# Altium schematic symbol library Resistor.SchLib: 8 symbols
Pins are listed as number, name and electrical type; pins without a type are passive.

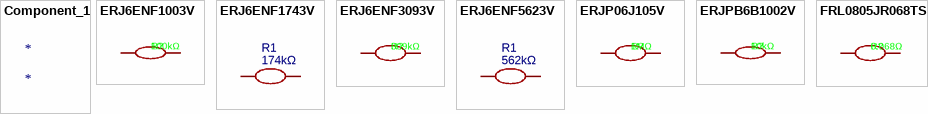
[diagram p0: symbols Component_1 to FRL0805JR068TS]

## Component_1
designator *

## ERJ6ENF1003V
designator R?, comment 100kΩ
100kΩ 0805 Chip Resistor 0.125W Thick Film Resistors ±100ppm/℃ ±1%  - Surface Mount ROHS; Manufacturer: PANASONIC(松下); Symbol: ERJ6ENF1003V; Add into BOM: yes; Device: ERJ6ENF1003V; LCSC Part Name: 100kΩ ±1% 125mW 厚膜电阻; Supplier Part: C169252; Manufacturer Part: ERJ6ENF1003V; Supplier Footprint: 0805; JLCPCB Part Class: Extended Part; Datasheet: https://atta.szlcsc.com/upload/public/pdf/source/20181222/C169252_7F18A762E4E3D9CA9CBEEE198C53D3F1.pdf; Supplier: LCSC; Convert to PCB: yes; Type: Thick Film Resistors; Value: 100kΩ; Tolerance: ±1%; Overload Voltage (Max): -; Temperature Coefficient: ±100ppm/℃; Operating Temperature Range: -55℃~+155℃
footprint R0805
3D model R0805_L2.0-W1.3-H0.6
pins: 1, 2

## ERJ6ENF1743V
designator R1, comment 174kΩ
174kΩ 0805 Chip Resistor  0.125W Thick Film Resistors ±100ppm/℃ ±1% - Surface Mount ROHS; Manufacturer: PANASONIC(松下); Manufacturer Part: ERJ6ENF1743V; nameAlias: Value; Contributor: LCSC; Supplier: LCSC; Supplier Part: C409978; JLCPCB Part Class: Extended Part; spicePre: R; spiceSymbolName: ERJ6ENF1743V
footprint R0805
pins: 1, 2

## ERJ6ENF3093V
designator R?, comment 309kΩ
309kΩ 0805 Chip Resistor 0.125W Thick Film Resistors ±100ppm/℃ ±1%  - Surface Mount ROHS; Manufacturer: PANASONIC(松下); Symbol: ERJ6ENF3093V; Add into BOM: yes; Device: ERJ6ENF3093V; LCSC Part Name: 309kΩ ±1% 125mW 厚膜电阻; Supplier Part: C410005; Manufacturer Part: ERJ6ENF3093V; Supplier Footprint: 0805; JLCPCB Part Class: Extended Part; Datasheet: https://atta.szlcsc.com/upload/public/pdf/source/20190806/C410005_411FBB62F8BDC8BC9CE172F2BD7302D6.pdf; Supplier: LCSC; Convert to PCB: yes; Type: Thick Film Resistors; Value: 309kΩ; Tolerance: ±1%; Overload Voltage (Max): -; Temperature Coefficient: ±100ppm/℃; Operating Temperature Range: -55℃~+155℃
footprint R0805
3D model R0805_L2.0-W1.3-H0.6
pins: 1, 2

## ERJ6ENF5623V
designator R1, comment 562kΩ
0.125W Thick Film Resistors ±100ppm/℃ ±1% 562kΩ 0805 Chip Resistor - Surface Mount ROHS; Manufacturer: PANASONIC(松下); Manufacturer Part: ERJ6ENF5623V; nameAlias: Value; Contributor: LCSC; Supplier: LCSC; Supplier Part: C3025620; JLCPCB Part Class: Extended Part; spicePre: R; spiceSymbolName: ERJ6ENF5623V
footprint R0805
pins: 1, 2

## ERJP06J105V
designator R?, comment 1MΩ
1MΩ 0805 Chip Resistor  0.5W Thick Film Resistors ±5% ±200ppm/℃ - Surface Mount ROHS; Manufacturer: PANASONIC(松下); Symbol: ERJP06J105V; Add into BOM: yes; Device: ERJP06J105V; LCSC Part Name: 1MΩ ±5% 500mW 厚膜电阻; Supplier Part: C441966; Manufacturer Part: ERJP06J105V; Supplier Footprint: 0805; JLCPCB Part Class: Extended Part; Supplier: LCSC; Convert to PCB: yes; Type: Thick Film Resistors; Value: 1MΩ; Tolerance: ±5%; Overload Voltage (Max): -; Temperature Coefficient: ±200ppm/℃; Operating Temperature Range: -55℃~+155℃
footprint R0805
3D model R0805_L2.0-W1.3-H0.6
pins: 1, 2

## ERJPB6B1002V
designator R?, comment 10kΩ
10kΩ 0805 Chip Resistor  0.2W Thick Film Resistors 200V ±50ppm/℃ ±0.1% - Surface Mount ROHS; Manufacturer: PANASONIC(松下); Symbol: ERJPB6B1002V; Add into BOM: yes; Device: ERJPB6B1002V; LCSC Part Name: 10kΩ ±0.1% 200mW 厚膜电阻; Supplier Part: C161788; Manufacturer Part: ERJPB6B1002V; Supplier Footprint: 0805; JLCPCB Part Class: Extended Part; Datasheet: https://atta.szlcsc.com/upload/public/pdf/source/20180416/C191317_151B7FE0B8A326015C369A5828110A93.pdf; Supplier: LCSC; Convert to PCB: yes; Type: Thick Film Resistors; Value: 10kΩ; Tolerance: ±0.1%; Temperature Coefficient: ±50ppm/℃; Operating Temperature Range: -55℃~+155℃
footprint R0805
3D model R0805_L2.0-W1.3-H0.6
pins: 1, 2

## FRL0805JR068TS
designator R?, comment 0.068Ω
0.125W Thick Film Resistors 300V ±600ppm/℃ ±5% 0.068Ω 0805 Chip Resistor - Surface Mount ROHS; Manufacturer: FOJAN; Symbol: FRL0805JR068TS; Add into BOM: yes; Value: 0.68Ω; Tolerance: ±1%; Temperature Coefficient: ±200ppm/℃; Device: FRL0805JR068TS; LCSC Part Name: C3000696; Supplier Part: C3000696; Manufacturer Part: FRL0805JR068TS; Supplier Footprint: 0805; JLCPCB Part Class: Extended Part; Supplier: LCSC; Convert to PCB: yes; Type: Thick Film Resistors; Overload Voltage (Max): -; Operating Temperature Range: -55℃~+155℃
footprint R0805
3D model R0805_L2.0-W1.3-H0.6
pins: 1, 2